# Altium schematic symbol library AP60P20Q.SchLib: 1 symbol
Pins are listed as number, name and electrical type; pins without a type are passive.

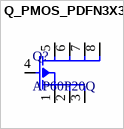
[diagram p0: symbol Q_PMOS_PDFN3X3]

## Q_PMOS_PDFN3X3
designator Q?, comment AP60P20Q
-55℃~+150℃ 1 P-Channel 1V 20V 3.6nF 440pF 55nC@4.5V 572pF 60A 80W 9mΩ@2.5V P-Channel PDFN3x3-8L MOSFETs ROHS
footprint Q_PMOS_PDFN3X3 (-55℃~+150℃ 1 P-Channel 1V 20V 3.6nF 440pF 55nC@4.5V 572pF 60A 80W 9mΩ@2.5V P-Channel PDFN3x3-8L MOSFETs ROHS)
pins: 1 S, 2 S, 3 S, 4 G, 5 D, 6 D, 7 D, 8 D